# Altium schematic symbol library 3296W-1-502LF.SchLib: 1 symbol
Pins are listed as number, name and electrical type; pins without a type are passive.

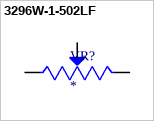
[diagram p0: symbol 3296W-1-502LF]

## 3296W-1-502LF
designator VR?
5 kOhms 0.5W, 1/2W PC Pins Through Hole Trimmer Potentiometer Cermet 25.0 Turn Top Adjustment; MF: Bourns; MP: 3296W-1-502LF; SnapEDA_Link: https://www.snapeda.com/parts/3296W-1-502LF/Bourns/view-part/?ref=snap; Price: None; Package: SOT-23-5 Bourns; Value: *; Check_prices: https://www.snapeda.com/parts/3296W-1-502LF/Bourns/view-part/?ref=eda; Purchase-URL: https://pricing.snapeda.com/search/part/3296W-1-502LF/?ref=eda; Availability: In Stock
footprint TRIM_3296W-1-502LF
footprint TRIM_3296W-1-502LF
pins: 1 CCW, 2 WIPER, 3 CW